# Altium footprint library A-2014-2S-4.PcbLib: 1 footprints
Each footprint in its own frame and in the unit in brackets; x right, y up, seen from the top. Pads: shape width x height; smd on the part's side, far side on the other; paste and mask are expansions set on the pad; w line width, h text height; cw(c..) or ccw(c..) is an arc to the next point about the centre after c.
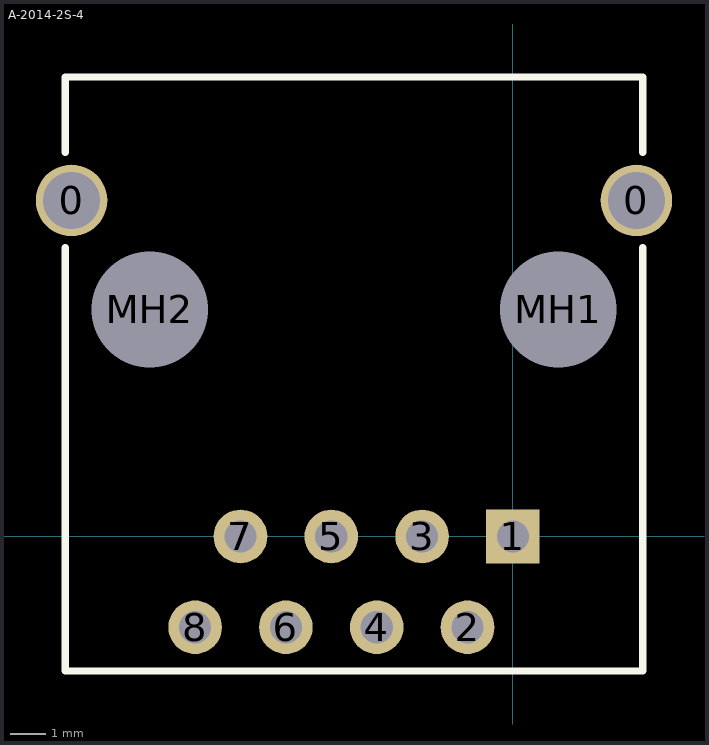
[diagram p0: the footprint, top view; thin cyan lines are the x and y axes]

## A-2014-2S-4 [mm] "Vertical RJ-45 Jack"
height 16.5
pads (12):
  round 2 hole 1.6: 0(-12.345,9.4) 0(3.455,9.4)
  rect 1.5x1.5 hole 0.9: 1(0,0)
  round 1.5 hole 0.9: 2(-1.27,-2.54) 3(-2.54,0) 4(-3.81,-2.54) 5(-5.08,0) 6(-6.35,-2.54) 7(-7.62,0) 8(-8.89,-2.54)
  round 2.95 hole 3.25 unplated: MH1(1.27,6.35) MH2(-10.16,6.35)
Top Overlay:
  lines w0.2: -12.522,8.077 -12.522,-3.762 3.632,-3.762 3.632,8.077 ; -12.522,10.744 -12.522,12.85 3.632,12.85 3.632,10.744
3D body: height 16.5, standoff -3.45, extent -12.52,-3.803 3.63,12.897